# EAGLE library part ATTINY*02 (library atmel)
8-bit AVR tiny-0-series Microcontroller CPU: two-cycle hardware multiplier single pin Unified Program Debug Interface (UPDI) programmable watchdog timer with separate on-chip oscillator programmable brown-out detection circuit with software disable function internal calibrated oscillator Status active active ATtiny202 ATtiny402 General purpose working registers 32 SRAM 128 B 256 B Flash 2 kB 4 kB EEPROM 64 B 128 B 16-bit Timer/Counter type A (TCA) 1 16-bit Timer/Counter type B (TCB) 1 Real Time Counter (RTC) 1 USART 1 SPI 1 TWI (I2C) 1 ADC 1 ADC channels 6 ADC resolution 10 bit AC 1 Custom Configurable Logic/Lookup tables 1/2 Window Watchdog 1 Event System channels 3 General purpose I/O 6 External interrupts 6 CRCSCAN 1 Operating voltage 1.8 ... 5.5 V Speed grade 0 ... 5 MHz @ 1.8 ... 5.5 V 0 ... 10 MHz @ 2.7 ... 5.5 V 0 ... 20 MHz @ 4.5 ... 5.5 V Clock options internal 16/20 MHz low power RC oscillator internal 32.768 kHz ultra low power RC oscillator external clock input Pin Name Other/Special ADC0 AC0 USART0 SPI0 TWI0 TCA0 TCB0 CCL PA0 !RESET, UPDI AIN0 XDIR !SS LUT0-IN0 PA1 AIN1 TxD MOSI SDA WO1 LUT0-IN1 PA2 EVOUT0 AIN2 RxD MISO SCL WO2 LUT0-IN2 PA3 EXTCLK AIN3 OUT XCK SCK WO0/WO3 PA6 AIN6 AINN0 TxD MOSI WO LUT0-OUT PA7 AIN7 AINP0 RxD MISO WO0 LUT1-OUT
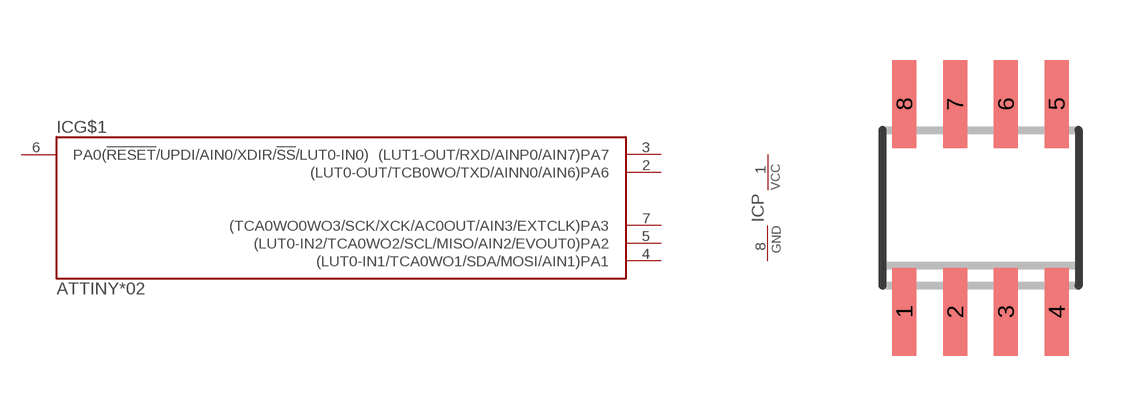
[diagram p84: symbol with the pads of SO8; footprint SO8]

Designator prefix IC; gates G$1=TINY402 P=PWR

## ATTINY202-SSN, ATTINY402-SSN  [SO8]
1  P:VCC  pwr
2  G$1:(LUT0-OUT/TCB0WO/TXD/AINN0/AIN6)PA6
3  G$1:(LUT1-OUT/RXD/AINP0/AIN7)PA7
4  G$1:(LUT0-IN1/TCA0WO1/SDA/MOSI/AIN1)PA1
5  G$1:(LUT0-IN2/TCA0WO2/SCL/MISO/AIN2/EVOUT0)PA2
6  G$1:PA0(!RESET!/UPDI/AIN0/XDIR/!SS!/LUT0-IN0)
7  G$1:(TCA0WO0WO3/SCK/XCK/AC0OUT/AIN3/EXTCLK)PA3
8  P:GND  pwr

## ATTINY202-SSF, ATTINY402-SSF  [SO8]
Pads as for SO8

## Footprint SO8 (pad centres in mm)
Small Outline IC, 150mil body width, 50mil lead pitch package/pad dimensions according to IPC-SM-782, RLP No. 300A JEDEC: MS-012 AA IPC: SO8 other notations: SO-8, SO08, SO-08, SOIC8, SOIC-8, SOIC08, SOIC-08
smd 0.6 x 2.2: 1 -1.905,-2.6; 2 -0.635,-2.6; 3 0.635,-2.6; 4 1.905,-2.6; 5 1.905,2.6; 6 0.635,2.6; 7 -0.635,2.6; 8 -1.905,2.6